# EAGLE library part HEADER_2X5 (library 1)
2x5 Header
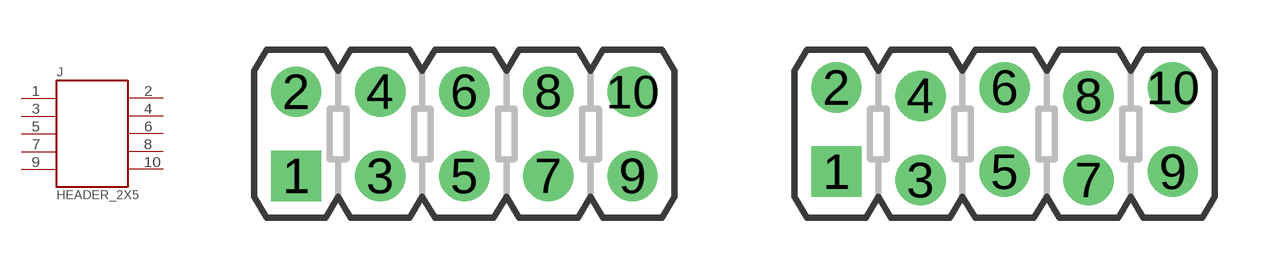
[diagram p51: symbol with the pads of 2X5_TH; footprints 2X5_TH, 2X5_TH_OFF]

Designator prefix J

## HEADER_2X5_0.1  [2X5_TH]
1  1
2  2
3  3
4  4
5  5
6  6
7  7
8  8
9  9
10  10

## HEADER_2X5_0.1_OFF  [2X5_TH_OFF]
Pads as for 2X5_TH

## Footprint 2X5_TH (pad centres in mm)
0.1" 2x5 Header
drill 0.914 pad 1.524 square: 1 -5.08,0
drill 0.914 pad 1.524: 2 -5.08,2.54; 3 -2.54,0; 4 -2.54,2.54; 5 0,0; 6 0,2.54; 7 2.54,0; 8 2.54,2.54; 9 5.08,0; 10 5.08,2.54

## Footprint 2X5_TH_OFF (pad centres in mm)
0.1" 2x5 Header, Offset
drill 0.914 pad 1.524 square: 1 -5.08,-1.143
drill 0.914 pad 1.524: 2 -5.08,1.397; 3 -2.54,-1.397; 4 -2.54,1.143; 5 0,-1.143; 6 0,1.397; 7 2.54,-1.397; 8 2.54,1.143; 9 5.08,-1.143; 10 5.08,1.397